# EAGLE library part PMG020 (library edrtech_lib)
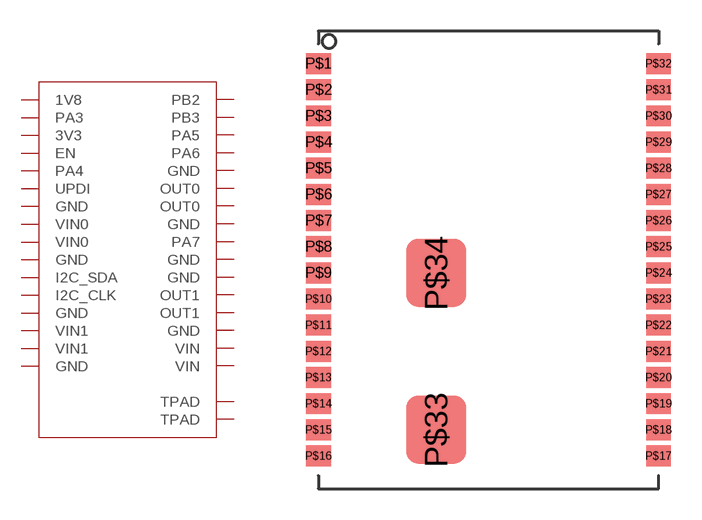
[diagram p66: symbol with the pads of PMG010; footprint PMG010]

Designator prefix -

## PMG020  [PMG010]
P$1  1V8
P$2  PA3
P$3  3V3
P$4  EN
P$5  PA4
P$6  UPDI
P$7  GND
P$8  VIN0
P$9  VIN0
P$10  GND
P$11  I2C_SDA
P$12  I2C_CLK
P$13  GND
P$14  VIN1
P$15  VIN1
P$16  GND
P$17  VIN
P$18  VIN
P$19  GND
P$20  OUT1
P$21  OUT1
P$22  GND
P$23  GND
P$24  PA7
P$25  GND
P$26  OUT0
P$27  OUT0
P$28  GND
P$29  PA6
P$30  PA5
P$31  PB3
P$32  PB2
P$33  TPAD
P$34  TPAD

## Footprint PMG010 (pad centres in mm)
smd 1.194 x 1.016: P$1 -8.255,9.525; P$2 -8.255,8.255; P$3 -8.255,6.985; P$4 -8.255,5.715; P$5 -8.255,4.445; P$6 -8.255,3.175; P$7 -8.255,1.905; P$8 -8.255,0.635; P$9 -8.255,-0.635; P$10 -8.255,-1.905; P$11 -8.255,-3.175; P$12 -8.255,-4.445; P$13 -8.255,-5.715; P$14 -8.255,-6.985; P$15 -8.255,-8.255; P$16 -8.255,-9.525; P$17 8.255,-9.525; P$18 8.255,-8.255; P$19 8.255,-6.985; P$20 8.255,-5.715; P$21 8.255,-4.445; P$22 8.255,-3.175; P$23 8.255,-1.905; P$24 8.255,-0.635; P$25 8.255,0.635; P$26 8.255,1.905; P$27 8.255,3.175; P$28 8.255,4.445; P$29 8.255,5.715; P$30 8.255,6.985; P$31 8.255,8.255; P$32 8.255,9.525
smd 2.921 x 3.302: P$33 -2.54,-8.255; P$34 -2.54,-0.635